# Altium schematic symbol library ISSI SRAM ASynchronous SRAM High Speed Low Power.SchLib: 413 symbols (part 16 of 21)
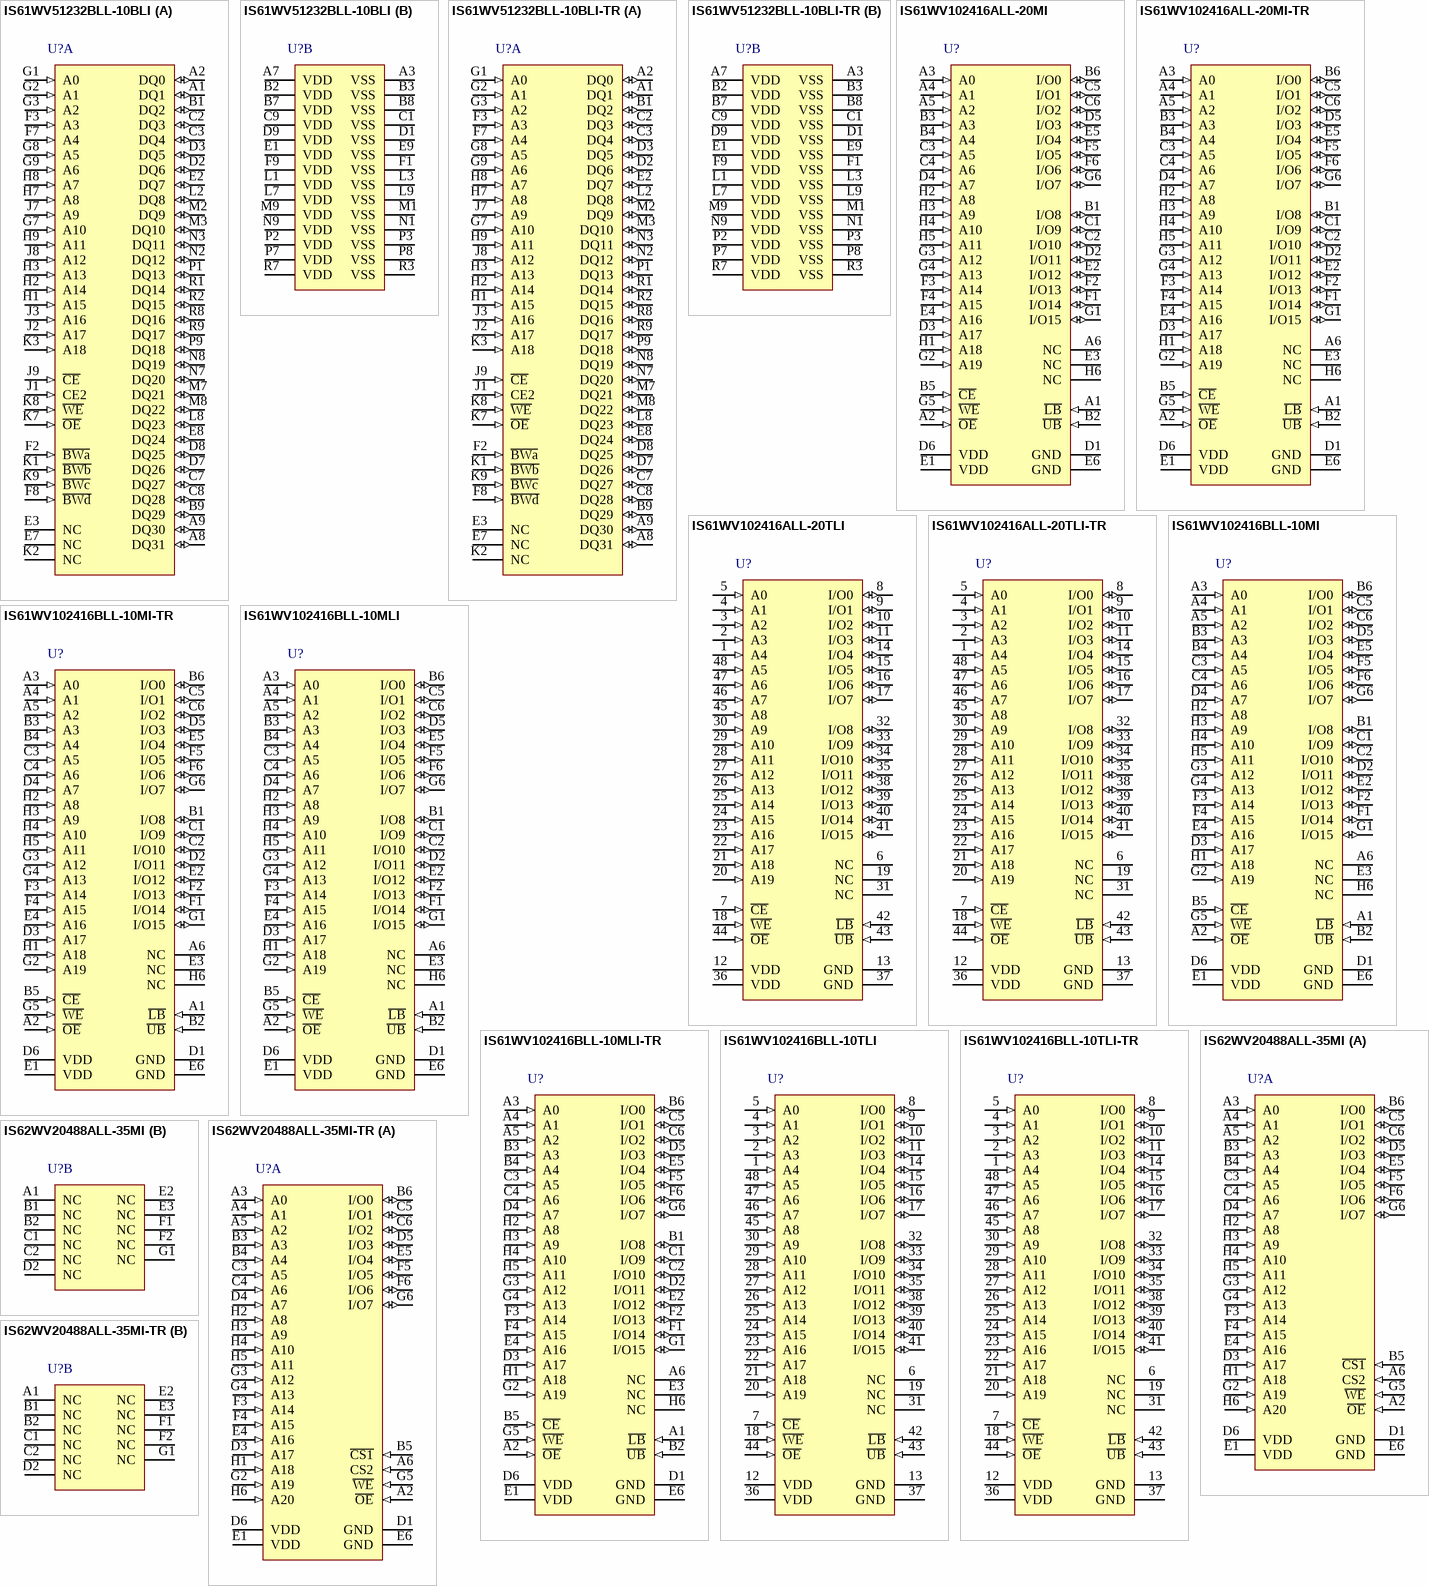
[diagram p43: symbols IS61WV51232BLL-10BLI to IS62WV20488ALL-35MI-TR]

## IS61WV102416BLL-10MI
designator U?
16 M High Speed Asynchronous CMOS SRAM with 3.3 V Supply, 1 M x 16, -40 to 85 degC, 48-Pin BGA (TF-BGA-48); Manufacturer: Integrated Silicon Solution Inc (ISSI); PartNumber: IS61WV102416BLL-10MI; Density: 16M; Organization: 1M x 16; Packing: Tray / Tube; Speed (ns): 10; DatasheetVersion: Rev. F; PackageVersion: Rev. B, 08/2008; PackageReference: TF-BGA-48; PackageDescription: 48-Pin 9 x 11 mm TF-BGA, Pitch 0.75 mm; Supplier 1: Digi-Key; Supplier Part Number 1: IS61WV102416BLL-10MI-ND; Supplier 2: Newark; Supplier Part Number 2: 58M0539; Supplier 3: Mouser; Supplier Part Number 3: 870-61WV102416BLL1MI; Mounting Technology: Surface Mount; Code_JEDEC: MO-207; ComponentLink1Description: Manufacturer URL; ComponentLink1URL: http://www.issi.com/US/index.shtml; ComponentLink2Description: Datasheet; ComponentLink2URL: http://www.issi.com/WW/pdf/61WV102416ALL.pdf; ComponentLink3Description: Package Specification; ComponentLink3URL: http://www.issi.com/WW/pdf/61-64WV51216.pdf
footprint ISSI-TF-BGA-48-9000x11000DE (BGA, 48-Balls, Body 11x9mm, Pitch 0.75mm)
pins: A1 ~{LB} (in) "Lower-byte Control (I/O0-I/O7)", A2 ~{OE} (in) "Output Enable Input", A3 A0 (in) "Address Input", A4 A1 (in) "Address Input", A5 A2 (in) "Address Input", A6 NC "No Connection", B1 I/O8 (io) "Data Inputs/Output", B2 ~{UB} (in) "Upper-byte Control (I/O8-I/O15)", B3 A3 (in) "Address Input", B4 A4 (in) "Address Input", B5 ~{CE} (in) "Chip Enable Input", B6 I/O0 (io) "Data Inputs/Output", C1 I/O9 (io) "Data Inputs/Output", C2 I/O10 (io) "Data Inputs/Output", C3 A5 (in) "Address Input", C4 A6 (in) "Address Input", C5 I/O1 (io) "Data Inputs/Output", C6 I/O2 (io) "Data Inputs/Output", D1 GND (power) "Ground", D2 I/O11 (io) "Data Inputs/Output", D3 A17 (in) "Address Input", D4 A7 (in) "Address Input", D5 I/O3 (io) "Data Inputs/Output", D6 VDD (power) "Power", E1 VDD (power) "Power", E2 I/O12 (io) "Data Inputs/Output", E3 NC "No Connection", E4 A16 (in) "Address Input", E5 I/O4 (io) "Data Inputs/Output", E6 GND (power) "Ground", F1 I/O14 (io) "Data Inputs/Output", F2 I/O13 (io) "Data Inputs/Output", F3 A14 (in) "Address Input", F4 A15 (in) "Address Input", F5 I/O5 (io) "Data Inputs/Output", F6 I/O6 (io) "Data Inputs/Output", G1 I/O15 (io) "Data Inputs/Output", G2 A19 (in) "Address Input", G3 A12 (in) "Address Input", G4 A13 (in) "Address Input", G5 ~{WE} (in) "Write Enable Input", G6 I/O7 (io) "Data Inputs/Output", H1 A18 (in) "Address Input", H2 A8 (in) "Address Input", H3 A9 (in) "Address Input", H4 A10 (in) "Address Input", H5 A11 (in) "Address Input", H6 NC "No Connection"

## IS61WV102416BLL-10MI-TR
designator U?
16 M High Speed Asynchronous CMOS SRAM with 3.3 V Supply, 1 M x 16, -40 to 85 degC, 48-Pin BGA (TF-BGA-48); Manufacturer: Integrated Silicon Solution Inc (ISSI); PartNumber: IS61WV102416BLL-10MI-TR; Density: 16M; Organization: 1M x 16; Packing: Tape & Reel; Speed (ns): 10; DatasheetVersion: Rev. F; PackageVersion: Rev. B, 08/2008; PackageReference: TF-BGA-48; PackageDescription: 48-Pin 9 x 11 mm TF-BGA, Pitch 0.75 mm; Supplier 1: Digi-Key; Supplier Part Number 1: IS61WV102416BLL-10MI-TR-ND; Supplier 2: Mouser; Supplier Part Number 2: 87061WV102416BLL1MIT; Mounting Technology: Surface Mount; Code_JEDEC: MO-207; ComponentLink1Description: Manufacturer URL; ComponentLink1URL: http://www.issi.com/US/index.shtml; ComponentLink2Description: Datasheet; ComponentLink2URL: http://www.issi.com/WW/pdf/61WV102416ALL.pdf; ComponentLink3Description: Package Specification; ComponentLink3URL: http://www.issi.com/WW/pdf/61-64WV51216.pdf
footprint ISSI-TF-BGA-48-9000x11000DE (BGA, 48-Balls, Body 11x9mm, Pitch 0.75mm)
pins: A1 ~{LB} (in) "Lower-byte Control (I/O0-I/O7)", A2 ~{OE} (in) "Output Enable Input", A3 A0 (in) "Address Input", A4 A1 (in) "Address Input", A5 A2 (in) "Address Input", A6 NC "No Connection", B1 I/O8 (io) "Data Inputs/Output", B2 ~{UB} (in) "Upper-byte Control (I/O8-I/O15)", B3 A3 (in) "Address Input", B4 A4 (in) "Address Input", B5 ~{CE} (in) "Chip Enable Input", B6 I/O0 (io) "Data Inputs/Output", C1 I/O9 (io) "Data Inputs/Output", C2 I/O10 (io) "Data Inputs/Output", C3 A5 (in) "Address Input", C4 A6 (in) "Address Input", C5 I/O1 (io) "Data Inputs/Output", C6 I/O2 (io) "Data Inputs/Output", D1 GND (power) "Ground", D2 I/O11 (io) "Data Inputs/Output", D3 A17 (in) "Address Input", D4 A7 (in) "Address Input", D5 I/O3 (io) "Data Inputs/Output", D6 VDD (power) "Power", E1 VDD (power) "Power", E2 I/O12 (io) "Data Inputs/Output", E3 NC "No Connection", E4 A16 (in) "Address Input", E5 I/O4 (io) "Data Inputs/Output", E6 GND (power) "Ground", F1 I/O14 (io) "Data Inputs/Output", F2 I/O13 (io) "Data Inputs/Output", F3 A14 (in) "Address Input", F4 A15 (in) "Address Input", F5 I/O5 (io) "Data Inputs/Output", F6 I/O6 (io) "Data Inputs/Output", G1 I/O15 (io) "Data Inputs/Output", G2 A19 (in) "Address Input", G3 A12 (in) "Address Input", G4 A13 (in) "Address Input", G5 ~{WE} (in) "Write Enable Input", G6 I/O7 (io) "Data Inputs/Output", H1 A18 (in) "Address Input", H2 A8 (in) "Address Input", H3 A9 (in) "Address Input", H4 A10 (in) "Address Input", H5 A11 (in) "Address Input", H6 NC "No Connection"

## IS61WV102416BLL-10MLI
designator U?
16 M High Speed Asynchronous CMOS SRAM with 3.3 V Supply, 1 M x 16, -40 to 85 degC, 48-Pin BGA (TF-BGA-48), Pb-Free; Manufacturer: Integrated Silicon Solution Inc (ISSI); PartNumber: IS61WV102416BLL-10MLI; Density: 16M; Organization: 1M x 16; Packing: Tray / Tube; Speed (ns): 10; DatasheetVersion: Rev. F; PackageVersion: Rev. B, 08/2008; PackageReference: TF-BGA-48; PackageDescription: 48-Pin 9 x 11 mm TF-BGA, Pitch 0.75 mm; Supplier 1: Digi-Key; Supplier Part Number 1: 706-1054-ND; Supplier 2: Farnell; Supplier Part Number 2: 2253840; Supplier 3: Newark; Supplier Part Number 3: 53W9302; Supplier 4: Newark; Supplier Part Number 4: 43M5377; Supplier 5: Mouser; Supplier Part Number 5: 87061WV102416BLL1MLI; RoHS: Pb-Free; Mounting Technology: Surface Mount; Code_JEDEC: MO-207; ComponentLink1Description: Manufacturer URL; ComponentLink1URL: http://www.issi.com/US/index.shtml; ComponentLink2Description: Datasheet; ComponentLink2URL: http://www.issi.com/WW/pdf/61WV102416ALL.pdf; ComponentLink3Description: Package Specification; ComponentLink3URL: http://www.issi.com/WW/pdf/61-64WV51216.pdf
footprint ISSI-TF-BGA-48-9000x11000DE (BGA, 48-Balls, Body 11x9mm, Pitch 0.75mm)
pins: A1 ~{LB} (in) "Lower-byte Control (I/O0-I/O7)", A2 ~{OE} (in) "Output Enable Input", A3 A0 (in) "Address Input", A4 A1 (in) "Address Input", A5 A2 (in) "Address Input", A6 NC "No Connection", B1 I/O8 (io) "Data Inputs/Output", B2 ~{UB} (in) "Upper-byte Control (I/O8-I/O15)", B3 A3 (in) "Address Input", B4 A4 (in) "Address Input", B5 ~{CE} (in) "Chip Enable Input", B6 I/O0 (io) "Data Inputs/Output", C1 I/O9 (io) "Data Inputs/Output", C2 I/O10 (io) "Data Inputs/Output", C3 A5 (in) "Address Input", C4 A6 (in) "Address Input", C5 I/O1 (io) "Data Inputs/Output", C6 I/O2 (io) "Data Inputs/Output", D1 GND (power) "Ground", D2 I/O11 (io) "Data Inputs/Output", D3 A17 (in) "Address Input", D4 A7 (in) "Address Input", D5 I/O3 (io) "Data Inputs/Output", D6 VDD (power) "Power", E1 VDD (power) "Power", E2 I/O12 (io) "Data Inputs/Output", E3 NC "No Connection", E4 A16 (in) "Address Input", E5 I/O4 (io) "Data Inputs/Output", E6 GND (power) "Ground", F1 I/O14 (io) "Data Inputs/Output", F2 I/O13 (io) "Data Inputs/Output", F3 A14 (in) "Address Input", F4 A15 (in) "Address Input", F5 I/O5 (io) "Data Inputs/Output", F6 I/O6 (io) "Data Inputs/Output", G1 I/O15 (io) "Data Inputs/Output", G2 A19 (in) "Address Input", G3 A12 (in) "Address Input", G4 A13 (in) "Address Input", G5 ~{WE} (in) "Write Enable Input", G6 I/O7 (io) "Data Inputs/Output", H1 A18 (in) "Address Input", H2 A8 (in) "Address Input", H3 A9 (in) "Address Input", H4 A10 (in) "Address Input", H5 A11 (in) "Address Input", H6 NC "No Connection"

## IS61WV102416BLL-10MLI-TR
designator U?
16 M High Speed Asynchronous CMOS SRAM with 3.3 V Supply, 1 M x 16, -40 to 85 degC, 48-Pin BGA (TF-BGA-48), Pb-Free; Manufacturer: Integrated Silicon Solution Inc (ISSI); PartNumber: IS61WV102416BLL-10MLI-TR; Density: 16M; Organization: 1M x 16; Packing: Tape & Reel; Speed (ns): 10; DatasheetVersion: Rev. F; PackageVersion: Rev. B, 08/2008; PackageReference: TF-BGA-48; PackageDescription: 48-Pin 9 x 11 mm TF-BGA, Pitch 0.75 mm; Supplier 1: Digi-Key; Supplier Part Number 1: IS61WV102416BLL-10MLI-TR-ND; Supplier 2: Newark; Supplier Part Number 2: 43M5378; Supplier 3: Mouser; Supplier Part Number 3: 87061WV102416BL1MLIT; RoHS: Pb-Free; Mounting Technology: Surface Mount; Code_JEDEC: MO-207; ComponentLink1Description: Manufacturer URL; ComponentLink1URL: http://www.issi.com/US/index.shtml; ComponentLink2Description: Datasheet; ComponentLink2URL: http://www.issi.com/WW/pdf/61WV102416ALL.pdf; ComponentLink3Description: Package Specification; ComponentLink3URL: http://www.issi.com/WW/pdf/61-64WV51216.pdf
footprint ISSI-TF-BGA-48-9000x11000DE (BGA, 48-Balls, Body 11x9mm, Pitch 0.75mm)
pins: A1 ~{LB} (in) "Lower-byte Control (I/O0-I/O7)", A2 ~{OE} (in) "Output Enable Input", A3 A0 (in) "Address Input", A4 A1 (in) "Address Input", A5 A2 (in) "Address Input", A6 NC "No Connection", B1 I/O8 (io) "Data Inputs/Output", B2 ~{UB} (in) "Upper-byte Control (I/O8-I/O15)", B3 A3 (in) "Address Input", B4 A4 (in) "Address Input", B5 ~{CE} (in) "Chip Enable Input", B6 I/O0 (io) "Data Inputs/Output", C1 I/O9 (io) "Data Inputs/Output", C2 I/O10 (io) "Data Inputs/Output", C3 A5 (in) "Address Input", C4 A6 (in) "Address Input", C5 I/O1 (io) "Data Inputs/Output", C6 I/O2 (io) "Data Inputs/Output", D1 GND (power) "Ground", D2 I/O11 (io) "Data Inputs/Output", D3 A17 (in) "Address Input", D4 A7 (in) "Address Input", D5 I/O3 (io) "Data Inputs/Output", D6 VDD (power) "Power", E1 VDD (power) "Power", E2 I/O12 (io) "Data Inputs/Output", E3 NC "No Connection", E4 A16 (in) "Address Input", E5 I/O4 (io) "Data Inputs/Output", E6 GND (power) "Ground", F1 I/O14 (io) "Data Inputs/Output", F2 I/O13 (io) "Data Inputs/Output", F3 A14 (in) "Address Input", F4 A15 (in) "Address Input", F5 I/O5 (io) "Data Inputs/Output", F6 I/O6 (io) "Data Inputs/Output", G1 I/O15 (io) "Data Inputs/Output", G2 A19 (in) "Address Input", G3 A12 (in) "Address Input", G4 A13 (in) "Address Input", G5 ~{WE} (in) "Write Enable Input", G6 I/O7 (io) "Data Inputs/Output", H1 A18 (in) "Address Input", H2 A8 (in) "Address Input", H3 A9 (in) "Address Input", H4 A10 (in) "Address Input", H5 A11 (in) "Address Input", H6 NC "No Connection"

## IS61WV102416BLL-10TLI
designator U?
16 M High Speed Asynchronous CMOS SRAM with 3.3 V Supply, 1 M x 16, -40 to 85 degC, 48-Pin SOP (TSOP-1-48), Pb-Free; Manufacturer: Integrated Silicon Solution Inc (ISSI); PartNumber: IS61WV102416BLL-10TLI; Density: 16M; Organization: 1M x 16; Packing: Tray / Tube; Speed (ns): 10; DatasheetVersion: Rev. F; PackageVersion: Rev. B, 07/2006; PackageReference: TSOP-1-48; PackageDescription: 48-Pin 12 x 20 mm TSOP-1, Pitch 0.5 mm; Supplier 1: Digi-Key; Supplier Part Number 1: 706-1055-ND; Supplier 2: Farnell; Supplier Part Number 2: 2253839; Supplier 3: Newark; Supplier Part Number 3: 53W9303; Supplier 4: Newark; Supplier Part Number 4: 43M5379; Supplier 5: Mouser; Supplier Part Number 5: 870-61WV102416B10TLI; RoHS: Pb-Free; Mounting Technology: Surface Mount; ComponentLink1Description: Manufacturer URL; ComponentLink1URL: http://www.issi.com/US/index.shtml; ComponentLink2Description: Datasheet; ComponentLink2URL: http://www.issi.com/WW/pdf/61WV102416ALL.pdf; ComponentLink3Description: Package Specification; ComponentLink3URL: http://www.issi.com/WW/pdf/61WV102416ALL.pdf
footprint ISSI-TSOP-1-48-12000X20000DE_N (SOP, 48-Leads, Body 18.6x12.2mm, Pitch 0.5mm, IPC Medium Density)
pins: 1 A4 (in) "Address Input", 2 A3 (in) "Address Input", 3 A2 (in) "Address Input", 4 A1 (in) "Address Input", 5 A0 (in) "Address Input", 6 NC "No Connection", 7 ~{CE} (in) "Chip Enable Input", 8 I/O0 (io) "Data Input/Output", 9 I/O1 (io) "Data Input/Output", 10 I/O2 (io) "Data Input/Output", 11 I/O3 (io) "Data Input/Output", 12 VDD (power) "Power", 13 GND (power) "Ground", 14 I/O4 (io) "Data Input/Output", 15 I/O5 (io) "Data Input/Output", 16 I/O6 (io) "Data Input/Output", 17 I/O7 (io) "Data Input/Output", 18 ~{WE} (in) "Write Enable Input", 19 NC "No Connection", 20 A19 (in) "Address Input", 21 A18 (in) "Address Input", 22 A17 (in) "Address Input", 23 A16 (in) "Address Input", 24 A15 (in) "Address Input", 25 A14 (in) "Address Input", 26 A13 (in) "Address Input", 27 A12 (in) "Address Input", 28 A11 (in) "Address Input", 29 A10 (in) "Address Input", 30 A9 (in) "Address Input", 31 NC "No Connection", 32 I/O8 (io) "Data Input/Output", 33 I/O9 (io) "Data Input/Output", 34 I/O10 (io) "Data Input/Output", 35 I/O11 (io) "Data Input/Output", 36 VDD (power) "Power", 37 GND (power) "Ground", 38 I/O12 (io) "Data Input/Output", 39 I/O13 (io) "Data Input/Output", 40 I/O14 (io) "Data Input/Output", 41 I/O15 (io) "Data Input/Output", 42 ~{LB} (in) "Lower-byte Control (I/O0-I/O7)", 43 ~{UB} (in) "Upper-byte Control (I/O8-I/O15)", 44 ~{OE} (in) "Output Enable Input", 45 A8 (in) "Address Input", 46 A7 (in) "Address Input", 47 A6 (in) "Address Input", 48 A5 (in) "Address Input"

## IS61WV102416BLL-10TLI-TR
designator U?
16 M High Speed Asynchronous CMOS SRAM with 3.3 V Supply, 1 M x 16, -40 to 85 degC, 48-Pin SOP (TSOP-1-48), Pb-Free; Manufacturer: Integrated Silicon Solution Inc (ISSI); PartNumber: IS61WV102416BLL-10TLI-TR; Density: 16M; Organization: 1M x 16; Packing: Tape & Reel; Speed (ns): 10; DatasheetVersion: Rev. F; PackageVersion: Rev. B, 07/2006; PackageReference: TSOP-1-48; PackageDescription: 48-Pin 12 x 20 mm TSOP-1, Pitch 0.5 mm; Supplier 1: Digi-Key; Supplier Part Number 1: IS61WV102416BLL-10TLI-TR-ND; Supplier 2: Mouser; Supplier Part Number 2: 87061WV102416B10TLIT; RoHS: Pb-Free; Mounting Technology: Surface Mount; ComponentLink1Description: Manufacturer URL; ComponentLink1URL: http://www.issi.com/US/index.shtml; ComponentLink2Description: Datasheet; ComponentLink2URL: http://www.issi.com/WW/pdf/61WV102416ALL.pdf; ComponentLink3Description: Package Specification; ComponentLink3URL: http://www.issi.com/WW/pdf/61WV102416ALL.pdf
footprint ISSI-TSOP-1-48-12000X20000DE_N (SOP, 48-Leads, Body 18.6x12.2mm, Pitch 0.5mm, IPC Medium Density)
pins: 1 A4 (in) "Address Input", 2 A3 (in) "Address Input", 3 A2 (in) "Address Input", 4 A1 (in) "Address Input", 5 A0 (in) "Address Input", 6 NC "No Connection", 7 ~{CE} (in) "Chip Enable Input", 8 I/O0 (io) "Data Input/Output", 9 I/O1 (io) "Data Input/Output", 10 I/O2 (io) "Data Input/Output", 11 I/O3 (io) "Data Input/Output", 12 VDD (power) "Power", 13 GND (power) "Ground", 14 I/O4 (io) "Data Input/Output", 15 I/O5 (io) "Data Input/Output", 16 I/O6 (io) "Data Input/Output", 17 I/O7 (io) "Data Input/Output", 18 ~{WE} (in) "Write Enable Input", 19 NC "No Connection", 20 A19 (in) "Address Input", 21 A18 (in) "Address Input", 22 A17 (in) "Address Input", 23 A16 (in) "Address Input", 24 A15 (in) "Address Input", 25 A14 (in) "Address Input", 26 A13 (in) "Address Input", 27 A12 (in) "Address Input", 28 A11 (in) "Address Input", 29 A10 (in) "Address Input", 30 A9 (in) "Address Input", 31 NC "No Connection", 32 I/O8 (io) "Data Input/Output", 33 I/O9 (io) "Data Input/Output", 34 I/O10 (io) "Data Input/Output", 35 I/O11 (io) "Data Input/Output", 36 VDD (power) "Power", 37 GND (power) "Ground", 38 I/O12 (io) "Data Input/Output", 39 I/O13 (io) "Data Input/Output", 40 I/O14 (io) "Data Input/Output", 41 I/O15 (io) "Data Input/Output", 42 ~{LB} (in) "Lower-byte Control (I/O0-I/O7)", 43 ~{UB} (in) "Upper-byte Control (I/O8-I/O15)", 44 ~{OE} (in) "Output Enable Input", 45 A8 (in) "Address Input", 46 A7 (in) "Address Input", 47 A6 (in) "Address Input", 48 A5 (in) "Address Input"

## IS62WV20488ALL-35MI
designator U?
16 M High Speed Low Power CMOS SRAM, 2 M x 8, -40 to 85 degC, 48-Pin BGA (TF-BGA-48); Manufacturer: Integrated Silicon Solution Inc (ISSI); PartNumber: IS62WV20488ALL-35MI; Density: 16M; Organization: 2M x 8; Packing: Tray / Tube; Speed (ns): 35; DatasheetVersion: Rev. A; PackageVersion: Rev. B, 08/2008; PackageReference: TF-BGA-48; PackageDescription: 48-Pin 9 x 11 mm TF-BGA, Pitch 0.75 mm; Mounting Technology: Surface Mount; Code_JEDEC: MO-207; ComponentLink1Description: Manufacturer URL; ComponentLink1URL: http://www.issi.com/US/index.shtml; ComponentLink2Description: Datasheet; ComponentLink2URL: http://www.issi.com/WW/pdf/62WV20488.pdf; ComponentLink3Description: Package Specification; ComponentLink3URL: http://www.issi.com/WW/pdf/61-64WV51216.pdf
footprint ISSI-TF-BGA-48-9000x11000DE (BGA, 48-Balls, Body 11x9mm, Pitch 0.75mm)
part A pins: A2 ~{OE} (in) "Output Enable Input", A3 A0 (in) "Address Input", A4 A1 (in) "Address Input", A5 A2 (in) "Address Input", A6 CS2 (in) "Chip Enable Input", B3 A3 (in) "Address Input", B4 A4 (in) "Address Input", B5 ~{CS1} (in) "Chip Enable Input", B6 I/O0 (io) "Data Input / Output", C3 A5 (in) "Address Input", C4 A6 (in) "Address Input", C5 I/O1 (io) "Data Input / Output", C6 I/O2 (io) "Data Input / Output", D1 GND (power) "Ground", D3 A17 (in) "Address Input", D4 A7 (in) "Address Input", D5 I/O3 (io) "Data Input / Output", D6 VDD (power) "Power", E1 VDD (power) "Power", E4 A16 (in) "Address Input", E5 I/O4 (io) "Data Input / Output", E6 GND (power) "Ground", F3 A14 (in) "Address Input", F4 A15 (in) "Address Input", F5 I/O5 (io) "Data Input / Output", F6 I/O6 (io) "Data Input / Output", G2 A19 (in) "Address Input", G3 A12 (in) "Address Input", G4 A13 (in) "Address Input", G5 ~{WE} (in) "Write Enable Input", G6 I/O7 (io) "Data Input / Output", H1 A18 (in) "Address Input", H2 A8 (in) "Address Input", H3 A9 (in) "Address Input", H4 A10 (in) "Address Input", H5 A11 (in) "Address Input", H6 A20 (in) "Address Input"
part B pins: A1 NC "No Connection", B1 NC "No Connection", B2 NC "No Connection", C1 NC "No Connection", C2 NC "No Connection", D2 NC "No Connection", E2 NC "No Connection", E3 NC "No Connection", F1 NC "No Connection", F2 NC "No Connection", G1 NC "No Connection"

## IS62WV20488ALL-35MI-TR
designator U?
16 M High Speed Low Power CMOS SRAM, 2 M x 8, -40 to 85 degC, 48-Pin BGA (TF-BGA-48); Manufacturer: Integrated Silicon Solution Inc (ISSI); PartNumber: IS62WV20488ALL-35MI-TR; Density: 16M; Organization: 2M x 8; Packing: Tape & Reel; Speed (ns): 35; DatasheetVersion: Rev. A; PackageVersion: Rev. B, 08/2008; PackageReference: TF-BGA-48; PackageDescription: 48-Pin 9 x 11 mm TF-BGA, Pitch 0.75 mm; Mounting Technology: Surface Mount; Code_JEDEC: MO-207; ComponentLink1Description: Manufacturer URL; ComponentLink1URL: http://www.issi.com/US/index.shtml; ComponentLink2Description: Datasheet; ComponentLink2URL: http://www.issi.com/WW/pdf/62WV20488.pdf; ComponentLink3Description: Package Specification; ComponentLink3URL: http://www.issi.com/WW/pdf/61-64WV51216.pdf
footprint ISSI-TF-BGA-48-9000x11000DE (BGA, 48-Balls, Body 11x9mm, Pitch 0.75mm)
part A pins: A2 ~{OE} (in) "Output Enable Input", A3 A0 (in) "Address Input", A4 A1 (in) "Address Input", A5 A2 (in) "Address Input", A6 CS2 (in) "Chip Enable Input", B3 A3 (in) "Address Input", B4 A4 (in) "Address Input", B5 ~{CS1} (in) "Chip Enable Input", B6 I/O0 (io) "Data Input / Output", C3 A5 (in) "Address Input", C4 A6 (in) "Address Input", C5 I/O1 (io) "Data Input / Output", C6 I/O2 (io) "Data Input / Output", D1 GND (power) "Ground", D3 A17 (in) "Address Input", D4 A7 (in) "Address Input", D5 I/O3 (io) "Data Input / Output", D6 VDD (power) "Power", E1 VDD (power) "Power", E4 A16 (in) "Address Input", E5 I/O4 (io) "Data Input / Output", E6 GND (power) "Ground", F3 A14 (in) "Address Input", F4 A15 (in) "Address Input", F5 I/O5 (io) "Data Input / Output", F6 I/O6 (io) "Data Input / Output", G2 A19 (in) "Address Input", G3 A12 (in) "Address Input", G4 A13 (in) "Address Input", G5 ~{WE} (in) "Write Enable Input", G6 I/O7 (io) "Data Input / Output", H1 A18 (in) "Address Input", H2 A8 (in) "Address Input", H3 A9 (in) "Address Input", H4 A10 (in) "Address Input", H5 A11 (in) "Address Input", H6 A20 (in) "Address Input"
part B pins: A1 NC "No Connection", B1 NC "No Connection", B2 NC "No Connection", C1 NC "No Connection", C2 NC "No Connection", D2 NC "No Connection", E2 NC "No Connection", E3 NC "No Connection", F1 NC "No Connection", F2 NC "No Connection", G1 NC "No Connection"

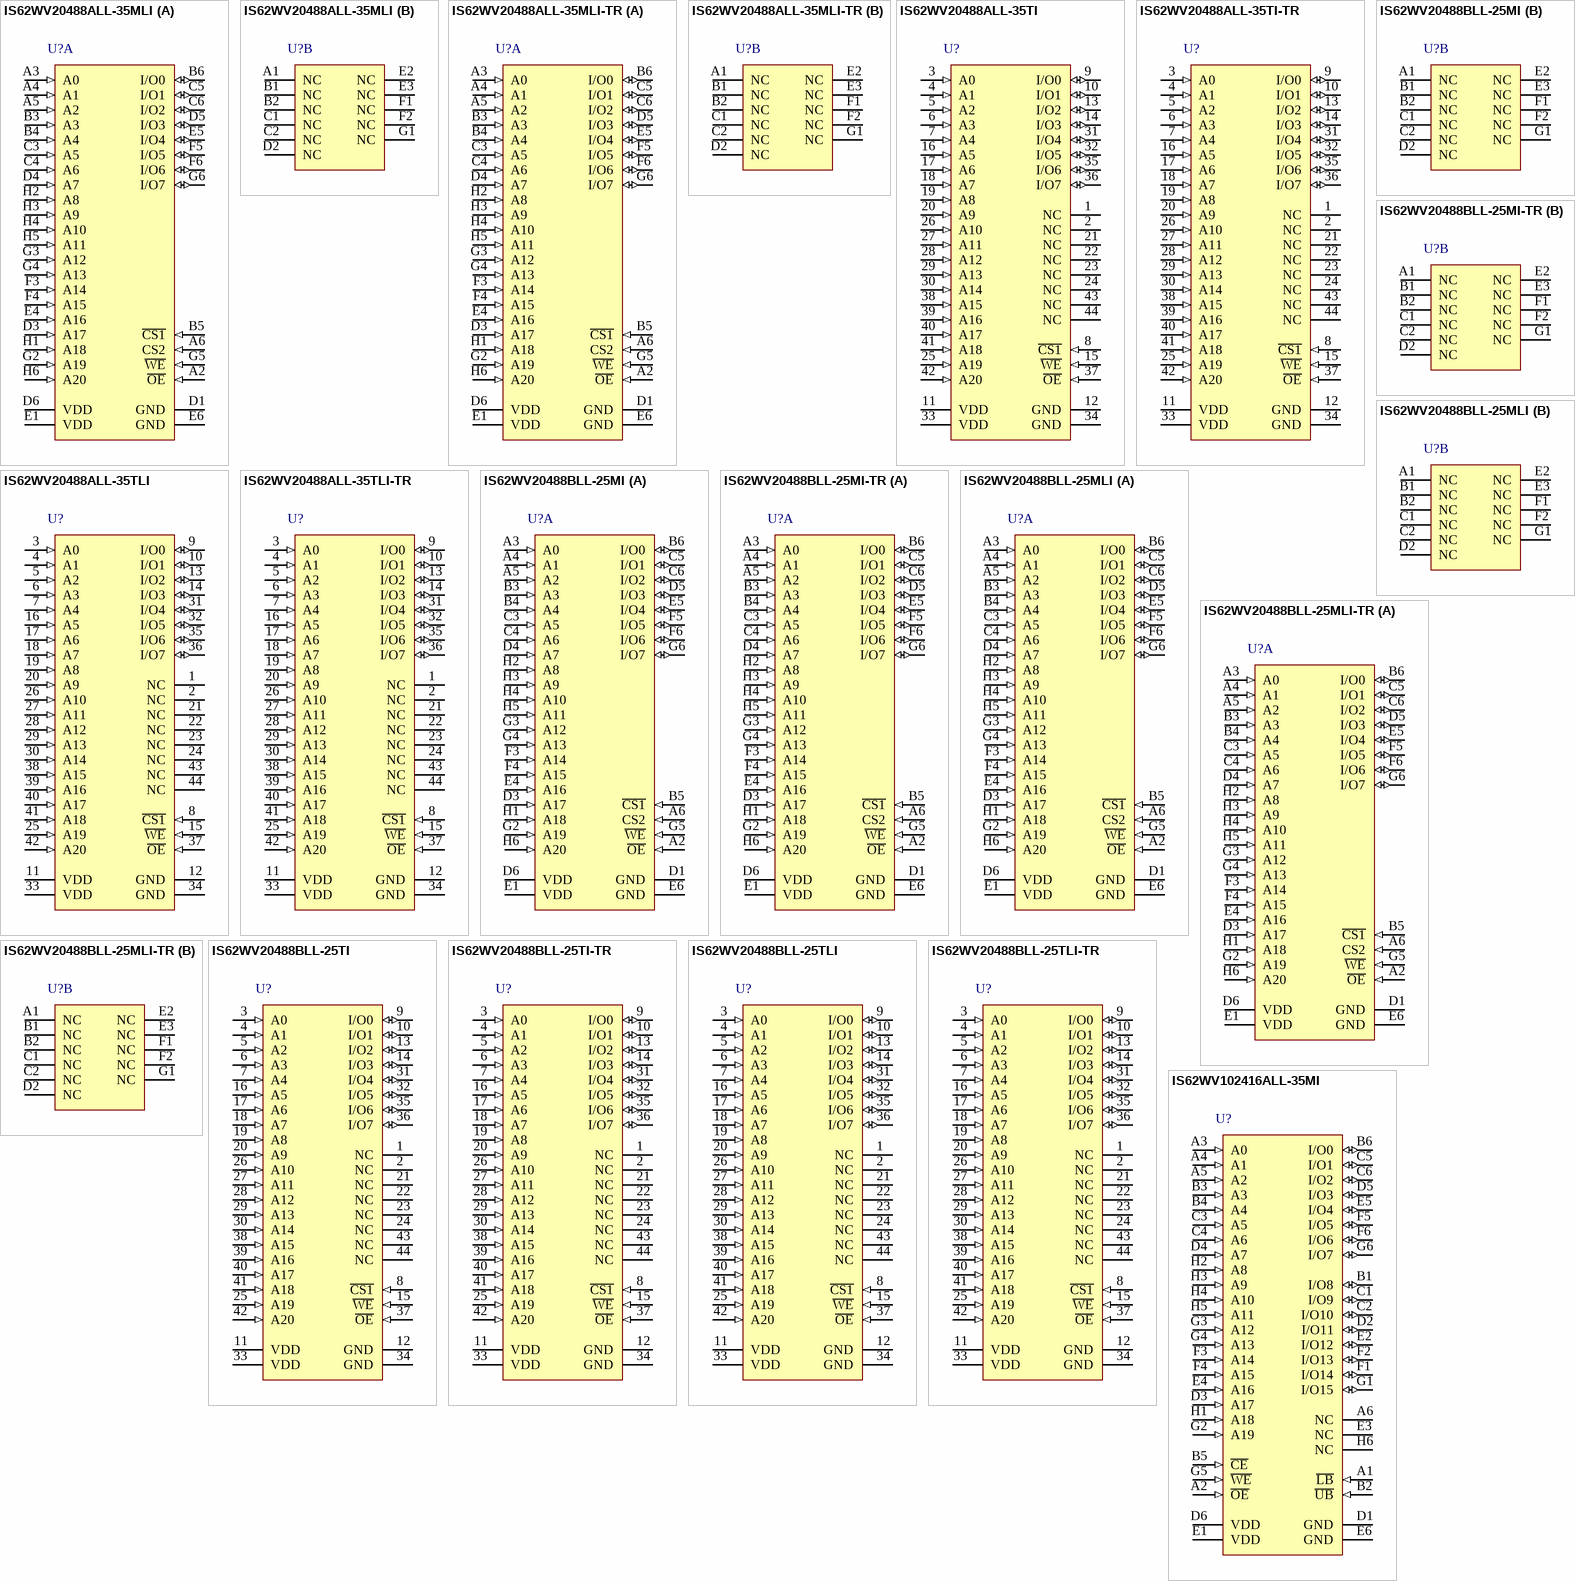
[diagram p22: symbols IS62WV20488ALL-35MLI to IS62WV102416ALL-35MI]

## IS62WV20488ALL-35MLI
designator U?
16 M High Speed Low Power CMOS SRAM, 2 M x 8, -40 to 85 degC, 48-Pin BGA (TF-BGA-48), Pb-Free; Manufacturer: Integrated Silicon Solution Inc (ISSI); PartNumber: IS62WV20488ALL-35MLI; Density: 16M; Organization: 2M x 8; Packing: Tray / Tube; Speed (ns): 35; DatasheetVersion: Rev. A; PackageVersion: Rev. B, 08/2008; PackageReference: TF-BGA-48; PackageDescription: 48-Pin 9 x 11 mm TF-BGA, Pitch 0.75 mm; RoHS: Pb-Free; Mounting Technology: Surface Mount; Code_JEDEC: MO-207; ComponentLink1Description: Manufacturer URL; ComponentLink1URL: http://www.issi.com/US/index.shtml; ComponentLink2Description: Datasheet; ComponentLink2URL: http://www.issi.com/WW/pdf/62WV20488.pdf; ComponentLink3Description: Package Specification; ComponentLink3URL: http://www.issi.com/WW/pdf/61-64WV51216.pdf
footprint ISSI-TF-BGA-48-9000x11000DE (BGA, 48-Balls, Body 11x9mm, Pitch 0.75mm)
part A pins: A2 ~{OE} (in) "Output Enable Input", A3 A0 (in) "Address Input", A4 A1 (in) "Address Input", A5 A2 (in) "Address Input", A6 CS2 (in) "Chip Enable Input", B3 A3 (in) "Address Input", B4 A4 (in) "Address Input", B5 ~{CS1} (in) "Chip Enable Input", B6 I/O0 (io) "Data Input / Output", C3 A5 (in) "Address Input", C4 A6 (in) "Address Input", C5 I/O1 (io) "Data Input / Output", C6 I/O2 (io) "Data Input / Output", D1 GND (power) "Ground", D3 A17 (in) "Address Input", D4 A7 (in) "Address Input", D5 I/O3 (io) "Data Input / Output", D6 VDD (power) "Power", E1 VDD (power) "Power", E4 A16 (in) "Address Input", E5 I/O4 (io) "Data Input / Output", E6 GND (power) "Ground", F3 A14 (in) "Address Input", F4 A15 (in) "Address Input", F5 I/O5 (io) "Data Input / Output", F6 I/O6 (io) "Data Input / Output", G2 A19 (in) "Address Input", G3 A12 (in) "Address Input", G4 A13 (in) "Address Input", G5 ~{WE} (in) "Write Enable Input", G6 I/O7 (io) "Data Input / Output", H1 A18 (in) "Address Input", H2 A8 (in) "Address Input", H3 A9 (in) "Address Input", H4 A10 (in) "Address Input", H5 A11 (in) "Address Input", H6 A20 (in) "Address Input"
part B pins: A1 NC "No Connection", B1 NC "No Connection", B2 NC "No Connection", C1 NC "No Connection", C2 NC "No Connection", D2 NC "No Connection", E2 NC "No Connection", E3 NC "No Connection", F1 NC "No Connection", F2 NC "No Connection", G1 NC "No Connection"

## IS62WV20488ALL-35MLI-TR
designator U?
16 M High Speed Low Power CMOS SRAM, 2 M x 8, -40 to 85 degC, 48-Pin BGA (TF-BGA-48), Pb-Free; Manufacturer: Integrated Silicon Solution Inc (ISSI); PartNumber: IS62WV20488ALL-35MLI-TR; Density: 16M; Organization: 2M x 8; Packing: Tape & Reel; Speed (ns): 35; DatasheetVersion: Rev. A; PackageVersion: Rev. B, 08/2008; PackageReference: TF-BGA-48; PackageDescription: 48-Pin 9 x 11 mm TF-BGA, Pitch 0.75 mm; RoHS: Pb-Free; Mounting Technology: Surface Mount; Code_JEDEC: MO-207; ComponentLink1Description: Manufacturer URL; ComponentLink1URL: http://www.issi.com/US/index.shtml; ComponentLink2Description: Datasheet; ComponentLink2URL: http://www.issi.com/WW/pdf/62WV20488.pdf; ComponentLink3Description: Package Specification; ComponentLink3URL: http://www.issi.com/WW/pdf/61-64WV51216.pdf
footprint ISSI-TF-BGA-48-9000x11000DE (BGA, 48-Balls, Body 11x9mm, Pitch 0.75mm)
part A pins: A2 ~{OE} (in) "Output Enable Input", A3 A0 (in) "Address Input", A4 A1 (in) "Address Input", A5 A2 (in) "Address Input", A6 CS2 (in) "Chip Enable Input", B3 A3 (in) "Address Input", B4 A4 (in) "Address Input", B5 ~{CS1} (in) "Chip Enable Input", B6 I/O0 (io) "Data Input / Output", C3 A5 (in) "Address Input", C4 A6 (in) "Address Input", C5 I/O1 (io) "Data Input / Output", C6 I/O2 (io) "Data Input / Output", D1 GND (power) "Ground", D3 A17 (in) "Address Input", D4 A7 (in) "Address Input", D5 I/O3 (io) "Data Input / Output", D6 VDD (power) "Power", E1 VDD (power) "Power", E4 A16 (in) "Address Input", E5 I/O4 (io) "Data Input / Output", E6 GND (power) "Ground", F3 A14 (in) "Address Input", F4 A15 (in) "Address Input", F5 I/O5 (io) "Data Input / Output", F6 I/O6 (io) "Data Input / Output", G2 A19 (in) "Address Input", G3 A12 (in) "Address Input", G4 A13 (in) "Address Input", G5 ~{WE} (in) "Write Enable Input", G6 I/O7 (io) "Data Input / Output", H1 A18 (in) "Address Input", H2 A8 (in) "Address Input", H3 A9 (in) "Address Input", H4 A10 (in) "Address Input", H5 A11 (in) "Address Input", H6 A20 (in) "Address Input"
part B pins: A1 NC "No Connection", B1 NC "No Connection", B2 NC "No Connection", C1 NC "No Connection", C2 NC "No Connection", D2 NC "No Connection", E2 NC "No Connection", E3 NC "No Connection", F1 NC "No Connection", F2 NC "No Connection", G1 NC "No Connection"

## IS62WV20488ALL-35TI
designator U?
16 M High Speed Low Power CMOS SRAM, 2 M x 8, -40 to 85 degC, 44-Pin SOP (TSOP-2-44); Manufacturer: Integrated Silicon Solution Inc (ISSI); PartNumber: IS62WV20488ALL-35TI; Density: 16M; Organization: 2M x 8; Packing: Tray / Tube; Speed (ns): 35; DatasheetVersion: Rev. A; PackageVersion: Rev. F, 06/2008; PackageReference: TSOP-2-44; PackageDescription: 44-Pin 400 mil TSOP-2, Body 18.41 x 10.16 mm, Pitch 0.8 mm; Mounting Technology: Surface Mount; ComponentLink1Description: Manufacturer URL; ComponentLink1URL: http://www.issi.com/US/index.shtml; ComponentLink2Description: Datasheet; ComponentLink2URL: http://www.issi.com/WW/pdf/62WV20488.pdf; ComponentLink3Description: Package Specification; ComponentLink3URL: http://www.issi.com/WW/pdf/61-64WV6416EEBLL.pdf
footprint ISSI-TSOP-2-44_N (SOP, 44-Leads, Body 18.5x10.3mm, Pitch 0.8mm, IPC Medium Density)
pins: 1 NC "No Connection", 2 NC "No Connection", 3 A0 (in) "Address Inputs", 4 A1 (in) "Address Inputs", 5 A2 (in) "Address Inputs", 6 A3 (in) "Address Inputs", 7 A4 (in) "Address Inputs", 8 ~{CS1} (in) "Chip Enable Input", 9 I/O0 (io) "Data Input / Output", 10 I/O1 (io) "Data Input / Output", 11 VDD (power) "Power", 12 GND (power) "Ground", 13 I/O2 (io) "Data Input / Output", 14 I/O3 (io) "Data Input / Output", 15 ~{WE} (in) "Write Enable Input", 16 A5 (in) "Address Inputs", 17 A6 (in) "Address Inputs", 18 A7 (in) "Address Inputs", 19 A8 (in) "Address Inputs", 20 A9 (in) "Address Inputs", 21 NC "No Connection", 22 NC "No Connection", 23 NC "No Connection", 24 NC "No Connection", 25 A19 (in) "Address Inputs", 26 A10 (in) "Address Inputs", 27 A11 (in) "Address Inputs", 28 A12 (in) "Address Inputs", 29 A13 (in) "Address Inputs", 30 A14 (in) "Address Inputs", 31 I/O4 (io) "Data Input / Output", 32 I/O5 (io) "Data Input / Output", 33 VDD (power) "Power", 34 GND (power) "Ground", 35 I/O6 (io) "Data Input / Output", 36 I/O7 (io) "Data Input / Output", 37 ~{OE} (in) "Output Enable Input", 38 A15 (in) "Address Inputs", 39 A16 (in) "Address Inputs", 40 A17 (in) "Address Inputs", 41 A18 (in) "Address Inputs", 42 A20 (in) "Address Inputs", 43 NC "No Connection", 44 NC "No Connection"

## IS62WV20488ALL-35TI-TR
designator U?
16 M High Speed Low Power CMOS SRAM, 2 M x 8, -40 to 85 degC, 44-Pin SOP (TSOP-2-44); Manufacturer: Integrated Silicon Solution Inc (ISSI); PartNumber: IS62WV20488ALL-35TI-TR; Density: 16M; Organization: 2M x 8; Packing: Tape & Reel; Speed (ns): 35; DatasheetVersion: Rev. A; PackageVersion: Rev. F, 06/2008; PackageReference: TSOP-2-44; PackageDescription: 44-Pin 400 mil TSOP-2, Body 18.41 x 10.16 mm, Pitch 0.8 mm; Mounting Technology: Surface Mount; ComponentLink1Description: Manufacturer URL; ComponentLink1URL: http://www.issi.com/US/index.shtml; ComponentLink2Description: Datasheet; ComponentLink2URL: http://www.issi.com/WW/pdf/62WV20488.pdf; ComponentLink3Description: Package Specification; ComponentLink3URL: http://www.issi.com/WW/pdf/61-64WV6416EEBLL.pdf
footprint ISSI-TSOP-2-44_N (SOP, 44-Leads, Body 18.5x10.3mm, Pitch 0.8mm, IPC Medium Density)
pins: 1 NC "No Connection", 2 NC "No Connection", 3 A0 (in) "Address Inputs", 4 A1 (in) "Address Inputs", 5 A2 (in) "Address Inputs", 6 A3 (in) "Address Inputs", 7 A4 (in) "Address Inputs", 8 ~{CS1} (in) "Chip Enable Input", 9 I/O0 (io) "Data Input / Output", 10 I/O1 (io) "Data Input / Output", 11 VDD (power) "Power", 12 GND (power) "Ground", 13 I/O2 (io) "Data Input / Output", 14 I/O3 (io) "Data Input / Output", 15 ~{WE} (in) "Write Enable Input", 16 A5 (in) "Address Inputs", 17 A6 (in) "Address Inputs", 18 A7 (in) "Address Inputs", 19 A8 (in) "Address Inputs", 20 A9 (in) "Address Inputs", 21 NC "No Connection", 22 NC "No Connection", 23 NC "No Connection", 24 NC "No Connection", 25 A19 (in) "Address Inputs", 26 A10 (in) "Address Inputs", 27 A11 (in) "Address Inputs", 28 A12 (in) "Address Inputs", 29 A13 (in) "Address Inputs", 30 A14 (in) "Address Inputs", 31 I/O4 (io) "Data Input / Output", 32 I/O5 (io) "Data Input / Output", 33 VDD (power) "Power", 34 GND (power) "Ground", 35 I/O6 (io) "Data Input / Output", 36 I/O7 (io) "Data Input / Output", 37 ~{OE} (in) "Output Enable Input", 38 A15 (in) "Address Inputs", 39 A16 (in) "Address Inputs", 40 A17 (in) "Address Inputs", 41 A18 (in) "Address Inputs", 42 A20 (in) "Address Inputs", 43 NC "No Connection", 44 NC "No Connection"

## IS62WV20488ALL-35TLI
designator U?
16 M High Speed Low Power CMOS SRAM, 2 M x 8, -40 to 85 degC, 44-Pin SOP (TSOP-2-44), Pb-Free; Manufacturer: Integrated Silicon Solution Inc (ISSI); PartNumber: IS62WV20488ALL-35TLI; Density: 16M; Organization: 2M x 8; Packing: Tray / Tube; Speed (ns): 35; DatasheetVersion: Rev. A; PackageVersion: Rev. F, 06/2008; PackageReference: TSOP-2-44; PackageDescription: 44-Pin 400 mil TSOP-2, Body 18.41 x 10.16 mm, Pitch 0.8 mm; RoHS: Pb-Free; Mounting Technology: Surface Mount; ComponentLink1Description: Manufacturer URL; ComponentLink1URL: http://www.issi.com/US/index.shtml; ComponentLink2Description: Datasheet; ComponentLink2URL: http://www.issi.com/WW/pdf/62WV20488.pdf; ComponentLink3Description: Package Specification; ComponentLink3URL: http://www.issi.com/WW/pdf/61-64WV6416EEBLL.pdf
footprint ISSI-TSOP-2-44_N (SOP, 44-Leads, Body 18.5x10.3mm, Pitch 0.8mm, IPC Medium Density)
pins: 1 NC "No Connection", 2 NC "No Connection", 3 A0 (in) "Address Inputs", 4 A1 (in) "Address Inputs", 5 A2 (in) "Address Inputs", 6 A3 (in) "Address Inputs", 7 A4 (in) "Address Inputs", 8 ~{CS1} (in) "Chip Enable Input", 9 I/O0 (io) "Data Input / Output", 10 I/O1 (io) "Data Input / Output", 11 VDD (power) "Power", 12 GND (power) "Ground", 13 I/O2 (io) "Data Input / Output", 14 I/O3 (io) "Data Input / Output", 15 ~{WE} (in) "Write Enable Input", 16 A5 (in) "Address Inputs", 17 A6 (in) "Address Inputs", 18 A7 (in) "Address Inputs", 19 A8 (in) "Address Inputs", 20 A9 (in) "Address Inputs", 21 NC "No Connection", 22 NC "No Connection", 23 NC "No Connection", 24 NC "No Connection", 25 A19 (in) "Address Inputs", 26 A10 (in) "Address Inputs", 27 A11 (in) "Address Inputs", 28 A12 (in) "Address Inputs", 29 A13 (in) "Address Inputs", 30 A14 (in) "Address Inputs", 31 I/O4 (io) "Data Input / Output", 32 I/O5 (io) "Data Input / Output", 33 VDD (power) "Power", 34 GND (power) "Ground", 35 I/O6 (io) "Data Input / Output", 36 I/O7 (io) "Data Input / Output", 37 ~{OE} (in) "Output Enable Input", 38 A15 (in) "Address Inputs", 39 A16 (in) "Address Inputs", 40 A17 (in) "Address Inputs", 41 A18 (in) "Address Inputs", 42 A20 (in) "Address Inputs", 43 NC "No Connection", 44 NC "No Connection"

## IS62WV20488ALL-35TLI-TR
designator U?
16 M High Speed Low Power CMOS SRAM, 2 M x 8, -40 to 85 degC, 44-Pin SOP (TSOP-2-44), Pb-Free; Manufacturer: Integrated Silicon Solution Inc (ISSI); PartNumber: IS62WV20488ALL-35TLI-TR; Density: 16M; Organization: 2M x 8; Packing: Tape & Reel; Speed (ns): 35; DatasheetVersion: Rev. A; PackageVersion: Rev. F, 06/2008; PackageReference: TSOP-2-44; PackageDescription: 44-Pin 400 mil TSOP-2, Body 18.41 x 10.16 mm, Pitch 0.8 mm; RoHS: Pb-Free; Mounting Technology: Surface Mount; ComponentLink1Description: Manufacturer URL; ComponentLink1URL: http://www.issi.com/US/index.shtml; ComponentLink2Description: Datasheet; ComponentLink2URL: http://www.issi.com/WW/pdf/62WV20488.pdf; ComponentLink3Description: Package Specification; ComponentLink3URL: http://www.issi.com/WW/pdf/61-64WV6416EEBLL.pdf
footprint ISSI-TSOP-2-44_N (SOP, 44-Leads, Body 18.5x10.3mm, Pitch 0.8mm, IPC Medium Density)
pins: 1 NC "No Connection", 2 NC "No Connection", 3 A0 (in) "Address Inputs", 4 A1 (in) "Address Inputs", 5 A2 (in) "Address Inputs", 6 A3 (in) "Address Inputs", 7 A4 (in) "Address Inputs", 8 ~{CS1} (in) "Chip Enable Input", 9 I/O0 (io) "Data Input / Output", 10 I/O1 (io) "Data Input / Output", 11 VDD (power) "Power", 12 GND (power) "Ground", 13 I/O2 (io) "Data Input / Output", 14 I/O3 (io) "Data Input / Output", 15 ~{WE} (in) "Write Enable Input", 16 A5 (in) "Address Inputs", 17 A6 (in) "Address Inputs", 18 A7 (in) "Address Inputs", 19 A8 (in) "Address Inputs", 20 A9 (in) "Address Inputs", 21 NC "No Connection", 22 NC "No Connection", 23 NC "No Connection", 24 NC "No Connection", 25 A19 (in) "Address Inputs", 26 A10 (in) "Address Inputs", 27 A11 (in) "Address Inputs", 28 A12 (in) "Address Inputs", 29 A13 (in) "Address Inputs", 30 A14 (in) "Address Inputs", 31 I/O4 (io) "Data Input / Output", 32 I/O5 (io) "Data Input / Output", 33 VDD (power) "Power", 34 GND (power) "Ground", 35 I/O6 (io) "Data Input / Output", 36 I/O7 (io) "Data Input / Output", 37 ~{OE} (in) "Output Enable Input", 38 A15 (in) "Address Inputs", 39 A16 (in) "Address Inputs", 40 A17 (in) "Address Inputs", 41 A18 (in) "Address Inputs", 42 A20 (in) "Address Inputs", 43 NC "No Connection", 44 NC "No Connection"

## IS62WV20488BLL-25MI
designator U?
16 M High Speed Low Power CMOS SRAM, 2 M x 8, -40 to 85 degC, 48-Pin BGA (TF-BGA-48); Manufacturer: Integrated Silicon Solution Inc (ISSI); PartNumber: IS62WV20488BLL-25MI; Density: 16M; Organization: 2M x 8; Packing: Tray / Tube; Speed (ns): 25; DatasheetVersion: Rev. A; PackageVersion: Rev. B, 08/2008; PackageReference: TF-BGA-48; PackageDescription: 48-Pin 9 x 11 mm TF-BGA, Pitch 0.75 mm; Mounting Technology: Surface Mount; Code_JEDEC: MO-207; ComponentLink1Description: Manufacturer URL; ComponentLink1URL: http://www.issi.com/US/index.shtml; ComponentLink2Description: Datasheet; ComponentLink2URL: http://www.issi.com/WW/pdf/62WV20488.pdf; ComponentLink3Description: Package Specification; ComponentLink3URL: http://www.issi.com/WW/pdf/61-64WV51216.pdf
footprint ISSI-TF-BGA-48-9000x11000DE (BGA, 48-Balls, Body 11x9mm, Pitch 0.75mm)
part A pins: A2 ~{OE} (in) "Output Enable Input", A3 A0 (in) "Address Input", A4 A1 (in) "Address Input", A5 A2 (in) "Address Input", A6 CS2 (in) "Chip Enable Input", B3 A3 (in) "Address Input", B4 A4 (in) "Address Input", B5 ~{CS1} (in) "Chip Enable Input", B6 I/O0 (io) "Data Input / Output", C3 A5 (in) "Address Input", C4 A6 (in) "Address Input", C5 I/O1 (io) "Data Input / Output", C6 I/O2 (io) "Data Input / Output", D1 GND (power) "Ground", D3 A17 (in) "Address Input", D4 A7 (in) "Address Input", D5 I/O3 (io) "Data Input / Output", D6 VDD (power) "Power", E1 VDD (power) "Power", E4 A16 (in) "Address Input", E5 I/O4 (io) "Data Input / Output", E6 GND (power) "Ground", F3 A14 (in) "Address Input", F4 A15 (in) "Address Input", F5 I/O5 (io) "Data Input / Output", F6 I/O6 (io) "Data Input / Output", G2 A19 (in) "Address Input", G3 A12 (in) "Address Input", G4 A13 (in) "Address Input", G5 ~{WE} (in) "Write Enable Input", G6 I/O7 (io) "Data Input / Output", H1 A18 (in) "Address Input", H2 A8 (in) "Address Input", H3 A9 (in) "Address Input", H4 A10 (in) "Address Input", H5 A11 (in) "Address Input", H6 A20 (in) "Address Input"
part B pins: A1 NC "No Connection", B1 NC "No Connection", B2 NC "No Connection", C1 NC "No Connection", C2 NC "No Connection", D2 NC "No Connection", E2 NC "No Connection", E3 NC "No Connection", F1 NC "No Connection", F2 NC "No Connection", G1 NC "No Connection"

## IS62WV20488BLL-25MI-TR
designator U?
16 M High Speed Low Power CMOS SRAM, 2 M x 8, -40 to 85 degC, 48-Pin BGA (TF-BGA-48); Manufacturer: Integrated Silicon Solution Inc (ISSI); PartNumber: IS62WV20488BLL-25MI-TR; Density: 16M; Organization: 2M x 8; Packing: Tape & Reel; Speed (ns): 25; DatasheetVersion: Rev. A; PackageVersion: Rev. B, 08/2008; PackageReference: TF-BGA-48; PackageDescription: 48-Pin 9 x 11 mm TF-BGA, Pitch 0.75 mm; Mounting Technology: Surface Mount; Code_JEDEC: MO-207; ComponentLink1Description: Manufacturer URL; ComponentLink1URL: http://www.issi.com/US/index.shtml; ComponentLink2Description: Datasheet; ComponentLink2URL: http://www.issi.com/WW/pdf/62WV20488.pdf; ComponentLink3Description: Package Specification; ComponentLink3URL: http://www.issi.com/WW/pdf/61-64WV51216.pdf
footprint ISSI-TF-BGA-48-9000x11000DE (BGA, 48-Balls, Body 11x9mm, Pitch 0.75mm)
part A pins: A2 ~{OE} (in) "Output Enable Input", A3 A0 (in) "Address Input", A4 A1 (in) "Address Input", A5 A2 (in) "Address Input", A6 CS2 (in) "Chip Enable Input", B3 A3 (in) "Address Input", B4 A4 (in) "Address Input", B5 ~{CS1} (in) "Chip Enable Input", B6 I/O0 (io) "Data Input / Output", C3 A5 (in) "Address Input", C4 A6 (in) "Address Input", C5 I/O1 (io) "Data Input / Output", C6 I/O2 (io) "Data Input / Output", D1 GND (power) "Ground", D3 A17 (in) "Address Input", D4 A7 (in) "Address Input", D5 I/O3 (io) "Data Input / Output", D6 VDD (power) "Power", E1 VDD (power) "Power", E4 A16 (in) "Address Input", E5 I/O4 (io) "Data Input / Output", E6 GND (power) "Ground", F3 A14 (in) "Address Input", F4 A15 (in) "Address Input", F5 I/O5 (io) "Data Input / Output", F6 I/O6 (io) "Data Input / Output", G2 A19 (in) "Address Input", G3 A12 (in) "Address Input", G4 A13 (in) "Address Input", G5 ~{WE} (in) "Write Enable Input", G6 I/O7 (io) "Data Input / Output", H1 A18 (in) "Address Input", H2 A8 (in) "Address Input", H3 A9 (in) "Address Input", H4 A10 (in) "Address Input", H5 A11 (in) "Address Input", H6 A20 (in) "Address Input"
part B pins: A1 NC "No Connection", B1 NC "No Connection", B2 NC "No Connection", C1 NC "No Connection", C2 NC "No Connection", D2 NC "No Connection", E2 NC "No Connection", E3 NC "No Connection", F1 NC "No Connection", F2 NC "No Connection", G1 NC "No Connection"

## IS62WV20488BLL-25MLI
designator U?
16 M High Speed Low Power CMOS SRAM, 2 M x 8, -40 to 85 degC, 48-Pin BGA (TF-BGA-48), Pb-Free; Manufacturer: Integrated Silicon Solution Inc (ISSI); PartNumber: IS62WV20488BLL-25MLI; Density: 16M; Organization: 2M x 8; Packing: Tray / Tube; Speed (ns): 25; DatasheetVersion: Rev. A; PackageVersion: Rev. B, 08/2008; PackageReference: TF-BGA-48; PackageDescription: 48-Pin 9 x 11 mm TF-BGA, Pitch 0.75 mm; Supplier 1: Mouser; Supplier Part Number 1: 870-62WV20488B25MLI; RoHS: Pb-Free; Mounting Technology: Surface Mount; Code_JEDEC: MO-207; ComponentLink1Description: Manufacturer URL; ComponentLink1URL: http://www.issi.com/US/index.shtml; ComponentLink2Description: Datasheet; ComponentLink2URL: http://www.issi.com/WW/pdf/62WV20488.pdf; ComponentLink3Description: Package Specification; ComponentLink3URL: http://www.issi.com/WW/pdf/61-64WV51216.pdf
footprint ISSI-TF-BGA-48-9000x11000DE (BGA, 48-Balls, Body 11x9mm, Pitch 0.75mm)
part A pins: A2 ~{OE} (in) "Output Enable Input", A3 A0 (in) "Address Input", A4 A1 (in) "Address Input", A5 A2 (in) "Address Input", A6 CS2 (in) "Chip Enable Input", B3 A3 (in) "Address Input", B4 A4 (in) "Address Input", B5 ~{CS1} (in) "Chip Enable Input", B6 I/O0 (io) "Data Input / Output", C3 A5 (in) "Address Input", C4 A6 (in) "Address Input", C5 I/O1 (io) "Data Input / Output", C6 I/O2 (io) "Data Input / Output", D1 GND (power) "Ground", D3 A17 (in) "Address Input", D4 A7 (in) "Address Input", D5 I/O3 (io) "Data Input / Output", D6 VDD (power) "Power", E1 VDD (power) "Power", E4 A16 (in) "Address Input", E5 I/O4 (io) "Data Input / Output", E6 GND (power) "Ground", F3 A14 (in) "Address Input", F4 A15 (in) "Address Input", F5 I/O5 (io) "Data Input / Output", F6 I/O6 (io) "Data Input / Output", G2 A19 (in) "Address Input", G3 A12 (in) "Address Input", G4 A13 (in) "Address Input", G5 ~{WE} (in) "Write Enable Input", G6 I/O7 (io) "Data Input / Output", H1 A18 (in) "Address Input", H2 A8 (in) "Address Input", H3 A9 (in) "Address Input", H4 A10 (in) "Address Input", H5 A11 (in) "Address Input", H6 A20 (in) "Address Input"
part B pins: A1 NC "No Connection", B1 NC "No Connection", B2 NC "No Connection", C1 NC "No Connection", C2 NC "No Connection", D2 NC "No Connection", E2 NC "No Connection", E3 NC "No Connection", F1 NC "No Connection", F2 NC "No Connection", G1 NC "No Connection"

## IS62WV20488BLL-25MLI-TR
designator U?
16 M High Speed Low Power CMOS SRAM, 2 M x 8, -40 to 85 degC, 48-Pin BGA (TF-BGA-48), Pb-Free; Manufacturer: Integrated Silicon Solution Inc (ISSI); PartNumber: IS62WV20488BLL-25MLI-TR; Density: 16M; Organization: 2M x 8; Packing: Tape & Reel; Speed (ns): 25; DatasheetVersion: Rev. A; PackageVersion: Rev. B, 08/2008; PackageReference: TF-BGA-48; PackageDescription: 48-Pin 9 x 11 mm TF-BGA, Pitch 0.75 mm; Supplier 1: Digi-Key; Supplier Part Number 1: IS62WV20488BLL-25MLI-TR-ND; Supplier 2: Mouser; Supplier Part Number 2: 870-62WV20488B25MLIT; RoHS: Pb-Free; Mounting Technology: Surface Mount; Code_JEDEC: MO-207; ComponentLink1Description: Manufacturer URL; ComponentLink1URL: http://www.issi.com/US/index.shtml; ComponentLink2Description: Datasheet; ComponentLink2URL: http://www.issi.com/WW/pdf/62WV20488.pdf; ComponentLink3Description: Package Specification; ComponentLink3URL: http://www.issi.com/WW/pdf/61-64WV51216.pdf
footprint ISSI-TF-BGA-48-9000x11000DE (BGA, 48-Balls, Body 11x9mm, Pitch 0.75mm)
part A pins: A2 ~{OE} (in) "Output Enable Input", A3 A0 (in) "Address Input", A4 A1 (in) "Address Input", A5 A2 (in) "Address Input", A6 CS2 (in) "Chip Enable Input", B3 A3 (in) "Address Input", B4 A4 (in) "Address Input", B5 ~{CS1} (in) "Chip Enable Input", B6 I/O0 (io) "Data Input / Output", C3 A5 (in) "Address Input", C4 A6 (in) "Address Input", C5 I/O1 (io) "Data Input / Output", C6 I/O2 (io) "Data Input / Output", D1 GND (power) "Ground", D3 A17 (in) "Address Input", D4 A7 (in) "Address Input", D5 I/O3 (io) "Data Input / Output", D6 VDD (power) "Power", E1 VDD (power) "Power", E4 A16 (in) "Address Input", E5 I/O4 (io) "Data Input / Output", E6 GND (power) "Ground", F3 A14 (in) "Address Input", F4 A15 (in) "Address Input", F5 I/O5 (io) "Data Input / Output", F6 I/O6 (io) "Data Input / Output", G2 A19 (in) "Address Input", G3 A12 (in) "Address Input", G4 A13 (in) "Address Input", G5 ~{WE} (in) "Write Enable Input", G6 I/O7 (io) "Data Input / Output", H1 A18 (in) "Address Input", H2 A8 (in) "Address Input", H3 A9 (in) "Address Input", H4 A10 (in) "Address Input", H5 A11 (in) "Address Input", H6 A20 (in) "Address Input"
part B pins: A1 NC "No Connection", B1 NC "No Connection", B2 NC "No Connection", C1 NC "No Connection", C2 NC "No Connection", D2 NC "No Connection", E2 NC "No Connection", E3 NC "No Connection", F1 NC "No Connection", F2 NC "No Connection", G1 NC "No Connection"

## IS62WV20488BLL-25TI
designator U?
16 M High Speed Low Power CMOS SRAM, 2 M x 8, -40 to 85 degC, 44-Pin SOP (TSOP-2-44); Manufacturer: Integrated Silicon Solution Inc (ISSI); PartNumber: IS62WV20488BLL-25TI; Density: 16M; Organization: 2M x 8; Packing: Tray / Tube; Speed (ns): 25; DatasheetVersion: Rev. A; PackageVersion: Rev. F, 06/2008; PackageReference: TSOP-2-44; PackageDescription: 44-Pin 400 mil TSOP-2, Body 18.41 x 10.16 mm, Pitch 0.8 mm; Mounting Technology: Surface Mount; ComponentLink1Description: Manufacturer URL; ComponentLink1URL: http://www.issi.com/US/index.shtml; ComponentLink2Description: Datasheet; ComponentLink2URL: http://www.issi.com/WW/pdf/62WV20488.pdf; ComponentLink3Description: Package Specification; ComponentLink3URL: http://www.issi.com/WW/pdf/61-64WV6416EEBLL.pdf
footprint ISSI-TSOP-2-44_N (SOP, 44-Leads, Body 18.5x10.3mm, Pitch 0.8mm, IPC Medium Density)
pins: 1 NC "No Connection", 2 NC "No Connection", 3 A0 (in) "Address Inputs", 4 A1 (in) "Address Inputs", 5 A2 (in) "Address Inputs", 6 A3 (in) "Address Inputs", 7 A4 (in) "Address Inputs", 8 ~{CS1} (in) "Chip Enable Input", 9 I/O0 (io) "Data Input / Output", 10 I/O1 (io) "Data Input / Output", 11 VDD (power) "Power", 12 GND (power) "Ground", 13 I/O2 (io) "Data Input / Output", 14 I/O3 (io) "Data Input / Output", 15 ~{WE} (in) "Write Enable Input", 16 A5 (in) "Address Inputs", 17 A6 (in) "Address Inputs", 18 A7 (in) "Address Inputs", 19 A8 (in) "Address Inputs", 20 A9 (in) "Address Inputs", 21 NC "No Connection", 22 NC "No Connection", 23 NC "No Connection", 24 NC "No Connection", 25 A19 (in) "Address Inputs", 26 A10 (in) "Address Inputs", 27 A11 (in) "Address Inputs", 28 A12 (in) "Address Inputs", 29 A13 (in) "Address Inputs", 30 A14 (in) "Address Inputs", 31 I/O4 (io) "Data Input / Output", 32 I/O5 (io) "Data Input / Output", 33 VDD (power) "Power", 34 GND (power) "Ground", 35 I/O6 (io) "Data Input / Output", 36 I/O7 (io) "Data Input / Output", 37 ~{OE} (in) "Output Enable Input", 38 A15 (in) "Address Inputs", 39 A16 (in) "Address Inputs", 40 A17 (in) "Address Inputs", 41 A18 (in) "Address Inputs", 42 A20 (in) "Address Inputs", 43 NC "No Connection", 44 NC "No Connection"

## IS62WV20488BLL-25TI-TR
designator U?
16 M High Speed Low Power CMOS SRAM, 2 M x 8, -40 to 85 degC, 44-Pin SOP (TSOP-2-44); Manufacturer: Integrated Silicon Solution Inc (ISSI); PartNumber: IS62WV20488BLL-25TI-TR; Density: 16M; Organization: 2M x 8; Packing: Tape & Reel; Speed (ns): 25; DatasheetVersion: Rev. A; PackageVersion: Rev. F, 06/2008; PackageReference: TSOP-2-44; PackageDescription: 44-Pin 400 mil TSOP-2, Body 18.41 x 10.16 mm, Pitch 0.8 mm; Mounting Technology: Surface Mount; ComponentLink1Description: Manufacturer URL; ComponentLink1URL: http://www.issi.com/US/index.shtml; ComponentLink2Description: Datasheet; ComponentLink2URL: http://www.issi.com/WW/pdf/62WV20488.pdf; ComponentLink3Description: Package Specification; ComponentLink3URL: http://www.issi.com/WW/pdf/61-64WV6416EEBLL.pdf
footprint ISSI-TSOP-2-44_N (SOP, 44-Leads, Body 18.5x10.3mm, Pitch 0.8mm, IPC Medium Density)
pins: 1 NC "No Connection", 2 NC "No Connection", 3 A0 (in) "Address Inputs", 4 A1 (in) "Address Inputs", 5 A2 (in) "Address Inputs", 6 A3 (in) "Address Inputs", 7 A4 (in) "Address Inputs", 8 ~{CS1} (in) "Chip Enable Input", 9 I/O0 (io) "Data Input / Output", 10 I/O1 (io) "Data Input / Output", 11 VDD (power) "Power", 12 GND (power) "Ground", 13 I/O2 (io) "Data Input / Output", 14 I/O3 (io) "Data Input / Output", 15 ~{WE} (in) "Write Enable Input", 16 A5 (in) "Address Inputs", 17 A6 (in) "Address Inputs", 18 A7 (in) "Address Inputs", 19 A8 (in) "Address Inputs", 20 A9 (in) "Address Inputs", 21 NC "No Connection", 22 NC "No Connection", 23 NC "No Connection", 24 NC "No Connection", 25 A19 (in) "Address Inputs", 26 A10 (in) "Address Inputs", 27 A11 (in) "Address Inputs", 28 A12 (in) "Address Inputs", 29 A13 (in) "Address Inputs", 30 A14 (in) "Address Inputs", 31 I/O4 (io) "Data Input / Output", 32 I/O5 (io) "Data Input / Output", 33 VDD (power) "Power", 34 GND (power) "Ground", 35 I/O6 (io) "Data Input / Output", 36 I/O7 (io) "Data Input / Output", 37 ~{OE} (in) "Output Enable Input", 38 A15 (in) "Address Inputs", 39 A16 (in) "Address Inputs", 40 A17 (in) "Address Inputs", 41 A18 (in) "Address Inputs", 42 A20 (in) "Address Inputs", 43 NC "No Connection", 44 NC "No Connection"